# EAGLE library part PICOBLADE_10_ (library CONNECTORs)
1.25mm pitch 1A connector. 10 way.
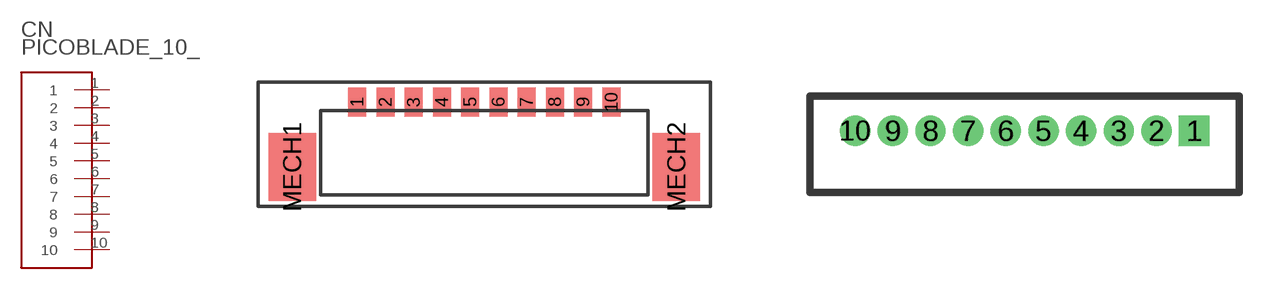
[diagram p15: symbol with the pads of MOLEX_0533981071; footprints MOLEX_0533981071, MOLEX_530471010]

Designator prefix CN

## PICOBLADE_10_SM_V (FARNELL: 1125372)  [MOLEX_0533981071]
1  1
2  2
3  3
4  4
5  5
6  6
7  7
8  8
9  9
10  10

## PICOBLADE_10_TH_V (FARNELL: 9733086)  [MOLEX_530471010]
Pads as for MOLEX_0533981071

## PICOBLADE_10_TV_R (DIGIKEY: WM1750-ND; HEIGHT: 3.5; PRICE_PER: 0.63; VALUE: 10WAY RA TH PICOBLADE)  [MOLEX_0530481010]
Pads as for MOLEX_0533981071

## Footprint MOLEX_0533981071 (pad centres in mm)
smd 0.8 x 1.3: 1 -5.625,2.125; 2 -4.375,2.125; 3 -3.125,2.125; 4 -1.875,2.125; 5 -0.625,2.125; 6 0.625,2.125; 7 1.875,2.125; 8 3.125,2.125; 9 4.375,2.125; 10 5.625,2.125
smd 2.1 x 3: MECH1 -8.5,-0.75; MECH2 8.5,-0.75

## Footprint MOLEX_530471010 (pad centres in mm)
drill 0.5 square: 1 5.625,0
drill 0.5: 2 4.375,0; 3 3.125,0; 4 1.875,0; 5 0.625,0; 6 -0.625,0; 7 -1.875,0; 8 -3.125,0; 9 -4.375,0; 10 -5.625,0

## Footprint MOLEX_0530481010 (pad centres in mm)
drill 0.5 square: 1 5.625,0
drill 0.5: 2 4.375,0; 3 3.125,0; 4 1.875,0; 5 0.625,0; 6 -0.625,0; 7 -1.875,0; 8 -3.125,0; 9 -4.375,0; 10 -5.625,0